# Altium schematic symbol library Analog Devices Amplifiers and Linear Comparators.SchLib: 160 symbols (part 2 of 9)
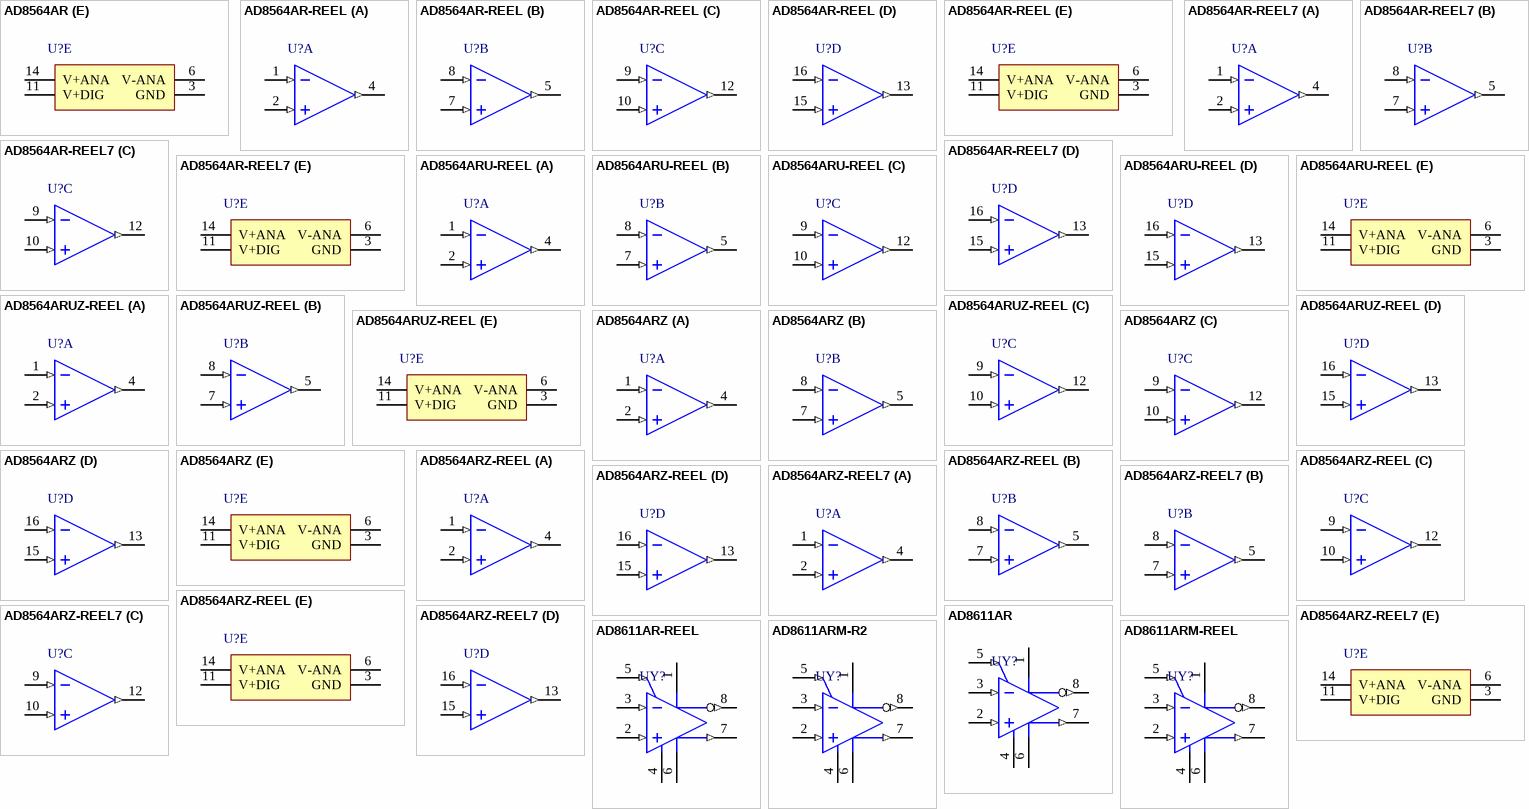
[diagram p8: symbols AD8564AR to AD8611ARM-REEL]

## AD8564AR-REEL7
designator U?
Quad Single Supply Comparator, 5 V, 7 ns Delay, Industrial, 16-pin SOIC (R-16), Reel; Manufacturer: Analog Devices; PartNumber: AD8564AR-REEL7; Input Range (V): -4.9 to 3.5; Total Power (mW): 150mW; Voltage Supply (V): +/- 5; DatasheetVersion: Rev. B; PackageVersion: 060606-A, 06/2006; PackageReference: R-16; PackageDescription: 16-Pin Standard Small Outline Package, Body 9.9 x 3.9 mm, Pitch 1.27 mm; Supplier 1: Digi-Key; Supplier Part Number 1: AD8564AR-REEL7-ND; Supplier 2: Mouser; Supplier Part Number 2: 584-AD8564AR-R7; Packing: Reel; Mounting Technology: Surface Mount; Code_JEDEC: MS-012-AC; ComponentLink1Description: Manufacturer URL; ComponentLink1URL: http://www.analog.com/en/index.html; ComponentLink2Description: Datasheet; ComponentLink2URL: http://www.analog.com/static/imported-files/data_sheets/AD8564.pdf; ComponentLink3Description: Package Specification; ComponentLink3URL: http://www.analog.com/static/imported-files/packages/PKG_PDF/SOIC_Narrow%20(R)/R_16.pdf; ComponentLink4Description: URL Link1; ComponentLink4URL: Product URL:http://www.analog.com/en/special-linear-functions/comparators/ad8564/products/product.html
footprint ADI-R-16_N (SOIC, 16-Leads, Body 9.9x3.9mm, Pitch 1.27mm, IPC Medium Density)
footprint ADI-R-16_L (SOIC, 16-Leads, Body 9.9x3.9mm, Pitch 1.27mm, IPC High Density)
footprint ADI-R-16_M (SOIC, 16-Leads, Body 9.9x3.9mm, Pitch 1.27mm, IPC Low Density)
part A pins: 1 -INA (in), 2 +INA (in), 4 OUT A (out)
part B pins: 5 OUT B (out), 7 +INB (in), 8 -INB (in)
part C pins: 9 -INC (in), 10 +INC (in), 12 OUT C (out)
part D pins: 13 OUT D (out), 15 +IND (in), 16 -IND (in)
part E pins: 3 GND (power), 6 V-ANA (power), 11 V+DIG (power), 14 V+ANA (power)

## AD8564ARU-REEL
designator U?
Quad Single Supply Comparator, 5 V, 7 ns Delay, Industrial, 16-pin SOP (RU-16), Reel; Manufacturer: Analog Devices; PartNumber: AD8564ARU-REEL; Input Range (V): -4.9 to 3.5; Total Power (mW): 150mW; Voltage Supply (V): +/- 5; DatasheetVersion: Rev. B; PackageVersion: Nov-02; PackageReference: RU-16; PackageDescription: 16-Pin Thin Shrink Small Outline Package, Body 5 x 4.4 mm, Pitch 0.65 mm; Supplier 1: Digi-Key; Supplier Part Number 1: AD8564ARU-REELTR-ND; Supplier 2: Digi-Key; Supplier Part Number 2: AD8564ARU-REELCT-ND; Supplier 3: Digi-Key; Supplier Part Number 3: AD8564ARU-REELDKR-ND; Supplier 4: Mouser; Supplier Part Number 4: N/A; Packing: Reel; Mounting Technology: Surface Mount; Code_JEDEC: MO-153AB; ComponentLink1Description: Manufacturer URL; ComponentLink1URL: http://www.analog.com/en/index.html; ComponentLink2Description: Datasheet; ComponentLink2URL: http://www.analog.com/static/imported-files/data_sheets/AD8564.pdf; ComponentLink3Description: Package Specification; ComponentLink3URL: http:/www.analog.com/static/imported-files/packages/36244347913743854010197452789RU16.pdf; ComponentLink4Description: URL Link1; ComponentLink4URL: Product URL:http://www.analog.com/en/special-linear-functions/comparators/ad8564/products/product.html
footprint ADI-RU-16_N (SOP, 16-Leads, Body 5x4.4mm, Pitch 0.65mm, IPC Medium Density)
footprint ADI-RU-16_L (SOP, 16-Leads, Body 5x4.4mm, Pitch 0.65mm, IPC High Density)
footprint ADI-RU-16_M (SOP, 16-Leads, Body 5x4.4mm, Pitch 0.65mm, IPC Low Density)
part A pins: 1 -INA (in), 2 +INA (in), 4 OUT A (out)
part B pins: 5 OUT B (out), 7 +INB (in), 8 -INB (in)
part C pins: 9 -INC (in), 10 +INC (in), 12 OUT C (out)
part D pins: 13 OUT D (out), 15 +IND (in), 16 -IND (in)
part E pins: 3 GND (power), 6 V-ANA (power), 11 V+DIG (power), 14 V+ANA (power)

## AD8564ARUZ-REEL
designator U?
Quad Single Supply Comparator, 5 V, 7 ns Delay, Industrial, 16-pin SOP (RU-16), Reel; Manufacturer: Analog Devices; PartNumber: AD8564ARUZ-REEL; Input Range (V): -4.9 to 3.5; Total Power (mW): 150mW; Voltage Supply (V): +/- 5; DatasheetVersion: Rev. B; PackageVersion: Nov-02; PackageReference: RU-16; PackageDescription: 16-Pin Thin Shrink Small Outline Package, Body 5 x 4.4 mm, Pitch 0.65 mm; Supplier 1: Digi-Key; Supplier Part Number 1: AD8564ARUZ-REELTR-ND; Supplier 2: Digi-Key; Supplier Part Number 2: AD8564ARUZ-REELCT-ND; Supplier 3: Digi-Key; Supplier Part Number 3: AD8564ARUZ-REELDKR-ND; Supplier 4: Farnell; Supplier Part Number 4: 2314117; Supplier 5: Farnell; Supplier Part Number 5: 2370362; Supplier 6: Mouser; Supplier Part Number 6: 584-AD8564ARUZ-R; Packing: Reel; Mounting Technology: Surface Mount; Code_JEDEC: MO-153AB; ComponentLink1Description: Manufacturer URL; ComponentLink1URL: http://www.analog.com/en/index.html; ComponentLink2Description: Datasheet; ComponentLink2URL: http://www.analog.com/static/imported-files/data_sheets/AD8564.pdf; ComponentLink3Description: Package Specification; ComponentLink3URL: http:/www.analog.com/static/imported-files/packages/36244347913743854010197452789RU16.pdf; ComponentLink4Description: URL Link1; ComponentLink4URL: Product URL:http://www.analog.com/en/special-linear-functions/comparators/ad8564/products/product.html
footprint ADI-RU-16_N (SOP, 16-Leads, Body 5x4.4mm, Pitch 0.65mm, IPC Medium Density)
footprint ADI-RU-16_L (SOP, 16-Leads, Body 5x4.4mm, Pitch 0.65mm, IPC High Density)
footprint ADI-RU-16_M (SOP, 16-Leads, Body 5x4.4mm, Pitch 0.65mm, IPC Low Density)
part A pins: 1 -INA (in), 2 +INA (in), 4 OUT A (out)
part B pins: 5 OUT B (out), 7 +INB (in), 8 -INB (in)
part C pins: 9 -INC (in), 10 +INC (in), 12 OUT C (out)
part D pins: 13 OUT D (out), 15 +IND (in), 16 -IND (in)
part E pins: 3 GND (power), 6 V-ANA (power), 11 V+DIG (power), 14 V+ANA (power)

## AD8564ARZ
designator U?
Quad Single Supply Comparator, 5 V, 7 ns Delay, Industrial, 16-pin SOIC (R-16), Tube; Manufacturer: Analog Devices; PartNumber: AD8564ARZ; Input Range (V): -4.9 to 3.5; Total Power (mW): 150mW; Voltage Supply (V): +/- 5; DatasheetVersion: Rev. B; PackageVersion: 060606-A, 06/2006; PackageReference: R-16; PackageDescription: 16-Pin Standard Small Outline Package, Body 9.9 x 3.9 mm, Pitch 1.27 mm; Supplier 1: Digi-Key; Supplier Part Number 1: AD8564ARZ-ND; Supplier 2: Farnell; Supplier Part Number 2: 1661044; Supplier 3: Mouser; Supplier Part Number 3: 584-AD8564ARZ; Packing: Tube; Mounting Technology: Surface Mount; Code_JEDEC: MS-012-AC; ComponentLink1Description: Manufacturer URL; ComponentLink1URL: http://www.analog.com/en/index.html; ComponentLink2Description: Datasheet; ComponentLink2URL: http://www.analog.com/static/imported-files/data_sheets/AD8564.pdf; ComponentLink3Description: Package Specification; ComponentLink3URL: http://www.analog.com/static/imported-files/packages/PKG_PDF/SOIC_Narrow%20(R)/R_16.pdf; ComponentLink4Description: URL Link1; ComponentLink4URL: Product URL:http://www.analog.com/en/special-linear-functions/comparators/ad8564/products/product.html
footprint ADI-R-16_N (SOIC, 16-Leads, Body 9.9x3.9mm, Pitch 1.27mm, IPC Medium Density)
footprint ADI-R-16_L (SOIC, 16-Leads, Body 9.9x3.9mm, Pitch 1.27mm, IPC High Density)
footprint ADI-R-16_M (SOIC, 16-Leads, Body 9.9x3.9mm, Pitch 1.27mm, IPC Low Density)
part A pins: 1 -INA (in), 2 +INA (in), 4 OUT A (out)
part B pins: 5 OUT B (out), 7 +INB (in), 8 -INB (in)
part C pins: 9 -INC (in), 10 +INC (in), 12 OUT C (out)
part D pins: 13 OUT D (out), 15 +IND (in), 16 -IND (in)
part E pins: 3 GND (power), 6 V-ANA (power), 11 V+DIG (power), 14 V+ANA (power)

## AD8564ARZ-REEL
designator U?
Quad Single Supply Comparator, 5 V, 7 ns Delay, Industrial, 16-pin SOIC (R-16), Reel; Manufacturer: Analog Devices; PartNumber: AD8564ARZ-REEL; Input Range (V): -4.9 to 3.5; Total Power (mW): 150mW; Voltage Supply (V): +/- 5; DatasheetVersion: Rev. B; PackageVersion: 060606-A, 06/2006; PackageReference: R-16; PackageDescription: 16-Pin Standard Small Outline Package, Body 9.9 x 3.9 mm, Pitch 1.27 mm; Supplier 1: Digi-Key; Supplier Part Number 1: AD8564ARZ-REEL-ND; Supplier 2: Mouser; Supplier Part Number 2: 584-AD8564ARZ-R; Packing: Reel; Mounting Technology: Surface Mount; Code_JEDEC: MS-012-AC; ComponentLink1Description: Manufacturer URL; ComponentLink1URL: http://www.analog.com/en/index.html; ComponentLink2Description: Datasheet; ComponentLink2URL: http://www.analog.com/static/imported-files/data_sheets/AD8564.pdf; ComponentLink3Description: Package Specification; ComponentLink3URL: http://www.analog.com/static/imported-files/packages/PKG_PDF/SOIC_Narrow%20(R)/R_16.pdf; ComponentLink4Description: URL Link1; ComponentLink4URL: Product URL:http://www.analog.com/en/special-linear-functions/comparators/ad8564/products/product.html
footprint ADI-R-16_N (SOIC, 16-Leads, Body 9.9x3.9mm, Pitch 1.27mm, IPC Medium Density)
footprint ADI-R-16_L (SOIC, 16-Leads, Body 9.9x3.9mm, Pitch 1.27mm, IPC High Density)
footprint ADI-R-16_M (SOIC, 16-Leads, Body 9.9x3.9mm, Pitch 1.27mm, IPC Low Density)
part A pins: 1 -INA (in), 2 +INA (in), 4 OUT A (out)
part B pins: 5 OUT B (out), 7 +INB (in), 8 -INB (in)
part C pins: 9 -INC (in), 10 +INC (in), 12 OUT C (out)
part D pins: 13 OUT D (out), 15 +IND (in), 16 -IND (in)
part E pins: 3 GND (power), 6 V-ANA (power), 11 V+DIG (power), 14 V+ANA (power)

## AD8564ARZ-REEL7
designator U?
Quad Single Supply Comparator, 5 V, 7 ns Delay, Industrial, 16-pin SOIC (R-16), Reel; Manufacturer: Analog Devices; PartNumber: AD8564ARZ-REEL7; Input Range (V): -4.9 to 3.5; Total Power (mW): 150mW; Voltage Supply (V): +/- 5; DatasheetVersion: Rev. B; PackageVersion: 060606-A, 06/2006; PackageReference: R-16; PackageDescription: 16-Pin Standard Small Outline Package, Body 9.9 x 3.9 mm, Pitch 1.27 mm; Supplier 1: Digi-Key; Supplier Part Number 1: AD8564ARZ-REEL7-ND; Supplier 2: Mouser; Supplier Part Number 2: 584-AD8564ARZ-R7; Packing: Reel; Mounting Technology: Surface Mount; Code_JEDEC: MS-012-AC; ComponentLink1Description: Manufacturer URL; ComponentLink1URL: http://www.analog.com/en/index.html; ComponentLink2Description: Datasheet; ComponentLink2URL: http://www.analog.com/static/imported-files/data_sheets/AD8564.pdf; ComponentLink3Description: Package Specification; ComponentLink3URL: http://www.analog.com/static/imported-files/packages/PKG_PDF/SOIC_Narrow%20(R)/R_16.pdf; ComponentLink4Description: URL Link1; ComponentLink4URL: Product URL:http://www.analog.com/en/special-linear-functions/comparators/ad8564/products/product.html
footprint ADI-R-16_N (SOIC, 16-Leads, Body 9.9x3.9mm, Pitch 1.27mm, IPC Medium Density)
footprint ADI-R-16_L (SOIC, 16-Leads, Body 9.9x3.9mm, Pitch 1.27mm, IPC High Density)
footprint ADI-R-16_M (SOIC, 16-Leads, Body 9.9x3.9mm, Pitch 1.27mm, IPC Low Density)
part A pins: 1 -INA (in), 2 +INA (in), 4 OUT A (out)
part B pins: 5 OUT B (out), 7 +INB (in), 8 -INB (in)
part C pins: 9 -INC (in), 10 +INC (in), 12 OUT C (out)
part D pins: 13 OUT D (out), 15 +IND (in), 16 -IND (in)
part E pins: 3 GND (power), 6 V-ANA (power), 11 V+DIG (power), 14 V+ANA (power)

## AD8611AR
designator UY?
Ultrafast, Single-Supply Comparator, 3 to 5 V, 5.5 ns Delay, Industrial, 8-pin SOIC (R-8), Tube; Manufacturer: Analog Devices; PartNumber: AD8611AR; Input Range (V): 0 to 3; Total Power (mW): 50mW; Voltage Supply (V): 3 to 5; DatasheetVersion: Rev. A; PackageVersion: 060506-A, 06/2006; PackageReference: R-8; PackageDescription: 8-Pin Standard Small Outline Package, Body 4.9 x 3.9 mm, Pitch 1.27 mm; Supplier 1: Digi-Key; Supplier Part Number 1: AD8611AR-ND; Supplier 2: Mouser; Supplier Part Number 2: 584-AD8611AR; Packing: Tube; Mounting Technology: Surface Mount; Code_JEDEC: MS-012-AA; ComponentLink1Description: Manufacturer URL; ComponentLink1URL: http://www.analog.com/en/index.html; ComponentLink2Description: Datasheet; ComponentLink2URL: http://www.analog.com/static/imported-files/data_sheets/AD8611_8612.pdf; ComponentLink3Description: Package Specification; ComponentLink3URL: http://www.analog.com/static/imported-files/packages/PKG_PDF/SOIC_Narrow%20(R)/R_8.pdf; ComponentLink4Description: URL Link1; ComponentLink4URL: Product URL:http://www.analog.com/en/special-linear-functions/comparators/ad8611/products/product.html
footprint ADI-R-8_N (SOIC, 8-Leads, Body 4.9x3.9mm, Pitch 1.27mm, IPC Medium Density)
footprint ADI-R-8_L (SOIC, 8-Leads, Body 4.9x3.9mm, Pitch 1.27mm, IPC High Density)
footprint ADI-R-8_M (SOIC, 8-Leads, Body 4.9x3.9mm, Pitch 1.27mm, IPC Low Density)
pins: 1 V+ (power) "Positive Supply Terminal.", 2 +IN (in) "Noninverting Analog Input of the Differential Input Stage.", 3 -IN (in) "Inverting Analog Input of the Differential Input Stage.", 4 V- (power) "Negative Supply Terminal.", 5 LATCH (in) "Latch Enable Input.", 6 GND (power) "Negative Logic Supply", 7 QA (out) "One of Two Complementary Output for Channel A.", 8 ~{QA} (out) "One of Two Complementary Output for Channel A."

## AD8611AR-REEL
designator UY?
Ultrafast, Single-Supply Comparator, 3 to 5 V, 5.5 ns Delay, Industrial, 8-pin SOIC (R-8), Reel; Manufacturer: Analog Devices; PartNumber: AD8611AR-REEL; Input Range (V): 0 to 3; Total Power (mW): 50mW; Voltage Supply (V): 3 to 5; DatasheetVersion: Rev. A; PackageVersion: 060506-A, 06/2006; PackageReference: R-8; PackageDescription: 8-Pin Standard Small Outline Package, Body 4.9 x 3.9 mm, Pitch 1.27 mm; Supplier 1: Digi-Key; Supplier Part Number 1: AD8611AR-REEL-ND; Supplier 2: Mouser; Supplier Part Number 2: 584-AD8611AR-R; Packing: Reel; Mounting Technology: Surface Mount; Code_JEDEC: MS-012-AA; ComponentLink1Description: Manufacturer URL; ComponentLink1URL: http://www.analog.com/en/index.html; ComponentLink2Description: Datasheet; ComponentLink2URL: http://www.analog.com/static/imported-files/data_sheets/AD8611_8612.pdf; ComponentLink3Description: Package Specification; ComponentLink3URL: http://www.analog.com/static/imported-files/packages/PKG_PDF/SOIC_Narrow%20(R)/R_8.pdf; ComponentLink4Description: URL Link1; ComponentLink4URL: Product URL:http://www.analog.com/en/special-linear-functions/comparators/ad8611/products/product.html
footprint ADI-R-8_N (SOIC, 8-Leads, Body 4.9x3.9mm, Pitch 1.27mm, IPC Medium Density)
footprint ADI-R-8_L (SOIC, 8-Leads, Body 4.9x3.9mm, Pitch 1.27mm, IPC High Density)
footprint ADI-R-8_M (SOIC, 8-Leads, Body 4.9x3.9mm, Pitch 1.27mm, IPC Low Density)
pins: 1 V+ (power) "Positive Supply Terminal.", 2 +IN (in) "Noninverting Analog Input of the Differential Input Stage.", 3 -IN (in) "Inverting Analog Input of the Differential Input Stage.", 4 V- (power) "Negative Supply Terminal.", 5 LATCH (in) "Latch Enable Input.", 6 GND (power) "Negative Logic Supply", 7 QA (out) "One of Two Complementary Output for Channel A.", 8 ~{QA} (out) "One of Two Complementary Output for Channel A."

## AD8611ARM-R2
designator UY?
Ultrafast, Single-Supply Comparator, 3 to 5 V, 5.5 ns Delay, Industrial, 8-pin SOP (RM-8), Reel; Manufacturer: Analog Devices; PartNumber: AD8611ARM-R2; Input Range (V): 0 to 3; Total Power (mW): 50mW; Voltage Supply (V): 3 to 5; DatasheetVersion: Rev. A; PackageVersion: Aug-05; PackageReference: RM-8; PackageDescription: 8-Pin Mini Small Outline Package, Body 3 x 3 mm, Pitch 0.65 mm; Supplier 1: Digi-Key; Supplier Part Number 1: AD8611ARM-R2-ND; Supplier 2: Mouser; Supplier Part Number 2: N/A; Packing: Reel; Mounting Technology: Surface Mount; Code_JEDEC: MO-187-AA; ComponentLink1Description: Manufacturer URL; ComponentLink1URL: http://www.analog.com/en/index.html; ComponentLink2Description: Datasheet; ComponentLink2URL: http://www.analog.com/static/imported-files/data_sheets/AD8611_8612.pdf; ComponentLink3Description: Package Specification; ComponentLink3URL: http://www.analog.com/static/imported-files/packages/PKG_PDF/MSOP%28RM%29/RM_8.pdf; ComponentLink4Description: URL Link1; ComponentLink4URL: Product URL:http://www.analog.com/en/special-linear-functions/comparators/ad8611/products/product.html
footprint ADI-RM-8_N (SOP, 8-Leads, Body 3x3mm, Pitch 0.65mm, IPC Medium Density)
footprint ADI-RM-8_L (SOP, 8-Leads, Body 3x3mm, Pitch 0.65mm, IPC High Density)
footprint ADI-RM-8_M (SOP, 8-Leads, Body 3x3mm, Pitch 0.65mm, IPC Low Density)
pins: 1 V+ (power) "Positive Supply Terminal.", 2 +IN (in) "Noninverting Analog Input of the Differential Input Stage.", 3 -IN (in) "Inverting Analog Input of the Differential Input Stage.", 4 V- (power) "Negative Supply Terminal.", 5 LATCH (in) "Latch Enable Input.", 6 GND (power) "Negative Logic Supply", 7 QA (out) "One of Two Complementary Output for Channel A.", 8 ~{QA} (out) "One of Two Complementary Output for Channel A."

## AD8611ARM-REEL
designator UY?
Ultrafast, Single-Supply Comparator, 3 to 5 V, 5.5 ns Delay, Industrial, 8-pin SOP (RM-8), Reel; Manufacturer: Analog Devices; PartNumber: AD8611ARM-REEL; Input Range (V): 0 to 3; Total Power (mW): 50mW; Voltage Supply (V): 3 to 5; DatasheetVersion: Rev. A; PackageVersion: Aug-05; PackageReference: RM-8; PackageDescription: 8-Pin Mini Small Outline Package, Body 3 x 3 mm, Pitch 0.65 mm; Supplier 1: Digi-Key; Supplier Part Number 1: AD8611ARM-REEL-ND; Supplier 2: Mouser; Supplier Part Number 2: N/A; Packing: Reel; Mounting Technology: Surface Mount; Code_JEDEC: MO-187-AA; ComponentLink1Description: Manufacturer URL; ComponentLink1URL: http://www.analog.com/en/index.html; ComponentLink2Description: Datasheet; ComponentLink2URL: http://www.analog.com/static/imported-files/data_sheets/AD8611_8612.pdf; ComponentLink3Description: Package Specification; ComponentLink3URL: http://www.analog.com/static/imported-files/packages/PKG_PDF/MSOP%28RM%29/RM_8.pdf; ComponentLink4Description: URL Link1; ComponentLink4URL: Product URL:http://www.analog.com/en/special-linear-functions/comparators/ad8611/products/product.html
footprint ADI-RM-8_N (SOP, 8-Leads, Body 3x3mm, Pitch 0.65mm, IPC Medium Density)
footprint ADI-RM-8_L (SOP, 8-Leads, Body 3x3mm, Pitch 0.65mm, IPC High Density)
footprint ADI-RM-8_M (SOP, 8-Leads, Body 3x3mm, Pitch 0.65mm, IPC Low Density)
pins: 1 V+ (power) "Positive Supply Terminal.", 2 +IN (in) "Noninverting Analog Input of the Differential Input Stage.", 3 -IN (in) "Inverting Analog Input of the Differential Input Stage.", 4 V- (power) "Negative Supply Terminal.", 5 LATCH (in) "Latch Enable Input.", 6 GND (power) "Negative Logic Supply", 7 QA (out) "One of Two Complementary Output for Channel A.", 8 ~{QA} (out) "One of Two Complementary Output for Channel A."

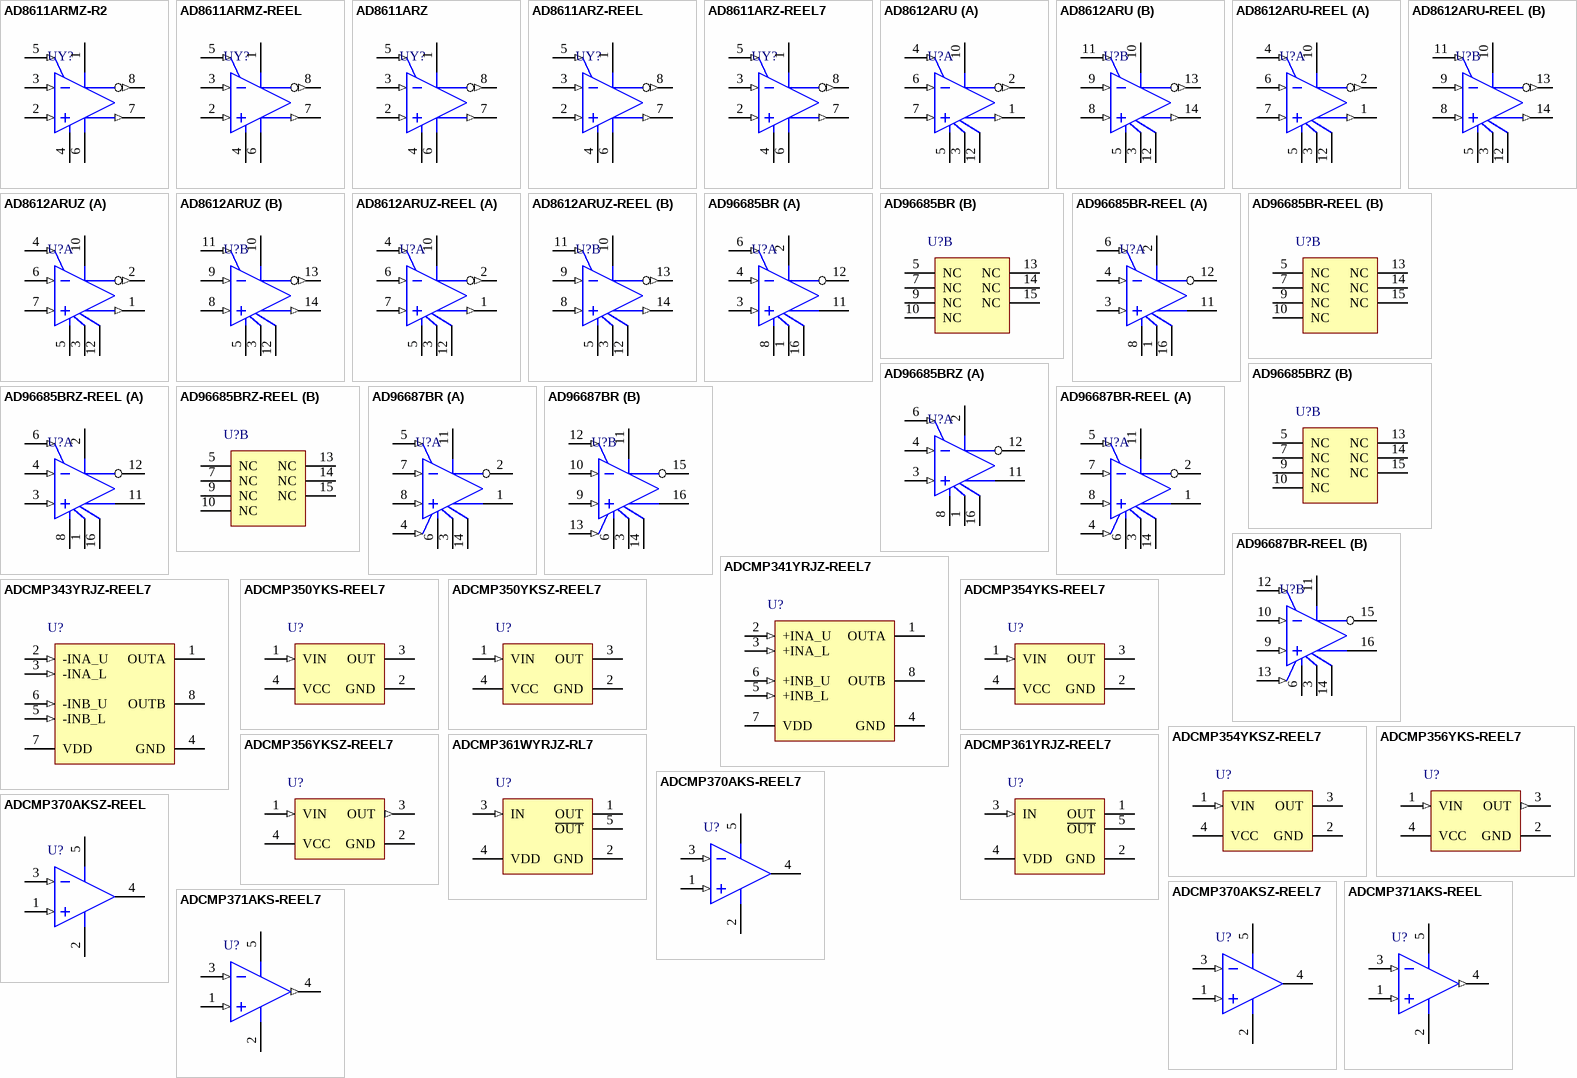
[diagram p2: symbols AD8611ARMZ-R2 to ADCMP371AKS-REEL7]

## AD8611ARMZ-R2
designator UY?
Ultrafast, Single-Supply Comparator, 3 to 5 V, 5.5 ns Delay, Industrial, 8-pin SOP (RM-8), Reel; Manufacturer: Analog Devices; PartNumber: AD8611ARMZ-R2; Input Range (V): 0 to 3; Total Power (mW): 50mW; Voltage Supply (V): 3 to 5; DatasheetVersion: Rev. A; PackageVersion: Aug-05; PackageReference: RM-8; PackageDescription: 8-Pin Mini Small Outline Package, Body 3 x 3 mm, Pitch 0.65 mm; Supplier 1: Digi-Key; Supplier Part Number 1: AD8611ARMZ-R2TR-ND; Supplier 2: Digi-Key; Supplier Part Number 2: AD8611ARMZ-R2CT-ND; Supplier 3: Digi-Key; Supplier Part Number 3: AD8611ARMZ-R2DKR-ND; Supplier 4: Farnell; Supplier Part Number 4: 1651268; Supplier 5: Mouser; Supplier Part Number 5: 584-AD8611ARMZ-R2; Packing: Reel; Mounting Technology: Surface Mount; Code_JEDEC: MO-187-AA; ComponentLink1Description: Manufacturer URL; ComponentLink1URL: http://www.analog.com/en/index.html; ComponentLink2Description: Datasheet; ComponentLink2URL: http://www.analog.com/static/imported-files/data_sheets/AD8611_8612.pdf; ComponentLink3Description: Package Specification; ComponentLink3URL: http://www.analog.com/static/imported-files/packages/PKG_PDF/MSOP%28RM%29/RM_8.pdf; ComponentLink4Description: URL Link1; ComponentLink4URL: Product URL:http://www.analog.com/en/special-linear-functions/comparators/ad8611/products/product.html
footprint ADI-RM-8_N (SOP, 8-Leads, Body 3x3mm, Pitch 0.65mm, IPC Medium Density)
footprint ADI-RM-8_L (SOP, 8-Leads, Body 3x3mm, Pitch 0.65mm, IPC High Density)
footprint ADI-RM-8_M (SOP, 8-Leads, Body 3x3mm, Pitch 0.65mm, IPC Low Density)
pins: 1 V+ (power) "Positive Supply Terminal.", 2 +IN (in) "Noninverting Analog Input of the Differential Input Stage.", 3 -IN (in) "Inverting Analog Input of the Differential Input Stage.", 4 V- (power) "Negative Supply Terminal.", 5 LATCH (in) "Latch Enable Input.", 6 GND (power) "Negative Logic Supply", 7 QA (out) "One of Two Complementary Output for Channel A.", 8 ~{QA} (out) "One of Two Complementary Output for Channel A."

## AD8611ARMZ-REEL
designator UY?
Ultrafast, Single-Supply Comparator, 3 to 5 V, 5.5 ns Delay, Industrial, 8-pin SOP (RM-8), Reel; Manufacturer: Analog Devices; PartNumber: AD8611ARMZ-REEL; Input Range (V): 0 to 3; Total Power (mW): 50mW; Voltage Supply (V): 3 to 5; DatasheetVersion: Rev. A; PackageVersion: Aug-05; PackageReference: RM-8; PackageDescription: 8-Pin Mini Small Outline Package, Body 3 x 3 mm, Pitch 0.65 mm; Supplier 1: Digi-Key; Supplier Part Number 1: AD8611ARMZ-REEL-ND; Supplier 2: Mouser; Supplier Part Number 2: 584-AD8611ARMZ-R; Packing: Reel; Mounting Technology: Surface Mount; Code_JEDEC: MO-187-AA; ComponentLink1Description: Manufacturer URL; ComponentLink1URL: http://www.analog.com/en/index.html; ComponentLink2Description: Datasheet; ComponentLink2URL: http://www.analog.com/static/imported-files/data_sheets/AD8611_8612.pdf; ComponentLink3Description: Package Specification; ComponentLink3URL: http://www.analog.com/static/imported-files/packages/PKG_PDF/MSOP%28RM%29/RM_8.pdf; ComponentLink4Description: URL Link1; ComponentLink4URL: Product URL:http://www.analog.com/en/special-linear-functions/comparators/ad8611/products/product.html
footprint ADI-RM-8_N (SOP, 8-Leads, Body 3x3mm, Pitch 0.65mm, IPC Medium Density)
footprint ADI-RM-8_L (SOP, 8-Leads, Body 3x3mm, Pitch 0.65mm, IPC High Density)
footprint ADI-RM-8_M (SOP, 8-Leads, Body 3x3mm, Pitch 0.65mm, IPC Low Density)
pins: 1 V+ (power) "Positive Supply Terminal.", 2 +IN (in) "Noninverting Analog Input of the Differential Input Stage.", 3 -IN (in) "Inverting Analog Input of the Differential Input Stage.", 4 V- (power) "Negative Supply Terminal.", 5 LATCH (in) "Latch Enable Input.", 6 GND (power) "Negative Logic Supply", 7 QA (out) "One of Two Complementary Output for Channel A.", 8 ~{QA} (out) "One of Two Complementary Output for Channel A."

## AD8611ARZ
designator UY?
Ultrafast, Single-Supply Comparator, 3 to 5 V, 5.5 ns Delay, Industrial, 8-pin SOIC (R-8), Tube; Manufacturer: Analog Devices; PartNumber: AD8611ARZ; Input Range (V): 0 to 3; Total Power (mW): 50mW; Voltage Supply (V): 3 to 5; DatasheetVersion: Rev. A; PackageVersion: 060506-A, 06/2006; PackageReference: R-8; PackageDescription: 8-Pin Standard Small Outline Package, Body 4.9 x 3.9 mm, Pitch 1.27 mm; Supplier 1: Digi-Key; Supplier Part Number 1: AD8611ARZ-ND; Supplier 2: Farnell; Supplier Part Number 2: 9604324; Supplier 3: Mouser; Supplier Part Number 3: 584-AD8611ARZ; Packing: Tube; Mounting Technology: Surface Mount; Code_JEDEC: MS-012-AA; ComponentLink1Description: Manufacturer URL; ComponentLink1URL: http://www.analog.com/en/index.html; ComponentLink2Description: Datasheet; ComponentLink2URL: http://www.analog.com/static/imported-files/data_sheets/AD8611_8612.pdf; ComponentLink3Description: Package Specification; ComponentLink3URL: http://www.analog.com/static/imported-files/packages/PKG_PDF/SOIC_Narrow%20(R)/R_8.pdf; ComponentLink4Description: URL Link1; ComponentLink4URL: Product URL:http://www.analog.com/en/special-linear-functions/comparators/ad8611/products/product.html
footprint ADI-R-8_N (SOIC, 8-Leads, Body 4.9x3.9mm, Pitch 1.27mm, IPC Medium Density)
footprint ADI-R-8_L (SOIC, 8-Leads, Body 4.9x3.9mm, Pitch 1.27mm, IPC High Density)
footprint ADI-R-8_M (SOIC, 8-Leads, Body 4.9x3.9mm, Pitch 1.27mm, IPC Low Density)
pins: 1 V+ (power) "Positive Supply Terminal.", 2 +IN (in) "Noninverting Analog Input of the Differential Input Stage.", 3 -IN (in) "Inverting Analog Input of the Differential Input Stage.", 4 V- (power) "Negative Supply Terminal.", 5 LATCH (in) "Latch Enable Input.", 6 GND (power) "Negative Logic Supply", 7 QA (out) "One of Two Complementary Output for Channel A.", 8 ~{QA} (out) "One of Two Complementary Output for Channel A."

## AD8611ARZ-REEL
designator UY?
Ultrafast, Single-Supply Comparator, 3 to 5 V, 5.5 ns Delay, Industrial, 8-pin SOIC (R-8), Reel; Manufacturer: Analog Devices; PartNumber: AD8611ARZ-REEL; Input Range (V): 0 to 3; Total Power (mW): 50mW; Voltage Supply (V): 3 to 5; DatasheetVersion: Rev. A; PackageVersion: 060506-A, 06/2006; PackageReference: R-8; PackageDescription: 8-Pin Standard Small Outline Package, Body 4.9 x 3.9 mm, Pitch 1.27 mm; Supplier 1: Digi-Key; Supplier Part Number 1: AD8611ARZ-REEL-ND; Supplier 2: Mouser; Supplier Part Number 2: 584-AD8611ARZ-R; Packing: Reel; Mounting Technology: Surface Mount; Code_JEDEC: MS-012-AA; ComponentLink1Description: Manufacturer URL; ComponentLink1URL: http://www.analog.com/en/index.html; ComponentLink2Description: Datasheet; ComponentLink2URL: http://www.analog.com/static/imported-files/data_sheets/AD8611_8612.pdf; ComponentLink3Description: Package Specification; ComponentLink3URL: http://www.analog.com/static/imported-files/packages/PKG_PDF/SOIC_Narrow%20(R)/R_8.pdf; ComponentLink4Description: URL Link1; ComponentLink4URL: Product URL:http://www.analog.com/en/special-linear-functions/comparators/ad8611/products/product.html
footprint ADI-R-8_N (SOIC, 8-Leads, Body 4.9x3.9mm, Pitch 1.27mm, IPC Medium Density)
footprint ADI-R-8_L (SOIC, 8-Leads, Body 4.9x3.9mm, Pitch 1.27mm, IPC High Density)
footprint ADI-R-8_M (SOIC, 8-Leads, Body 4.9x3.9mm, Pitch 1.27mm, IPC Low Density)
pins: 1 V+ (power) "Positive Supply Terminal.", 2 +IN (in) "Noninverting Analog Input of the Differential Input Stage.", 3 -IN (in) "Inverting Analog Input of the Differential Input Stage.", 4 V- (power) "Negative Supply Terminal.", 5 LATCH (in) "Latch Enable Input.", 6 GND (power) "Negative Logic Supply", 7 QA (out) "One of Two Complementary Output for Channel A.", 8 ~{QA} (out) "One of Two Complementary Output for Channel A."

## AD8611ARZ-REEL7
designator UY?
Ultrafast, Single-Supply Comparator, 3 to 5 V, 5.5 ns Delay, Industrial, 8-pin SOIC (R-8), Reel; Manufacturer: Analog Devices; PartNumber: AD8611ARZ-REEL7; Input Range (V): 0 to 3; Total Power (mW): 50mW; Voltage Supply (V): 3 to 5; DatasheetVersion: Rev. A; PackageVersion: 060506-A, 06/2006; PackageReference: R-8; PackageDescription: 8-Pin Standard Small Outline Package, Body 4.9 x 3.9 mm, Pitch 1.27 mm; Supplier 1: Digi-Key; Supplier Part Number 1: AD8611ARZ-REEL7TR-ND; Supplier 2: Digi-Key; Supplier Part Number 2: AD8611ARZ-REEL7CT-ND; Supplier 3: Digi-Key; Supplier Part Number 3: AD8611ARZ-REEL7DKR-ND; Supplier 4: Mouser; Supplier Part Number 4: 584-AD8611ARZ-R7; Packing: Reel; Mounting Technology: Surface Mount; Code_JEDEC: MS-012-AA; ComponentLink1Description: Manufacturer URL; ComponentLink1URL: http://www.analog.com/en/index.html; ComponentLink2Description: Datasheet; ComponentLink2URL: http://www.analog.com/static/imported-files/data_sheets/AD8611_8612.pdf; ComponentLink3Description: Package Specification; ComponentLink3URL: http://www.analog.com/static/imported-files/packages/PKG_PDF/SOIC_Narrow%20(R)/R_8.pdf; ComponentLink4Description: URL Link1; ComponentLink4URL: Product URL:http://www.analog.com/en/special-linear-functions/comparators/ad8611/products/product.html
footprint ADI-R-8_N (SOIC, 8-Leads, Body 4.9x3.9mm, Pitch 1.27mm, IPC Medium Density)
footprint ADI-R-8_L (SOIC, 8-Leads, Body 4.9x3.9mm, Pitch 1.27mm, IPC High Density)
footprint ADI-R-8_M (SOIC, 8-Leads, Body 4.9x3.9mm, Pitch 1.27mm, IPC Low Density)
pins: 1 V+ (power) "Positive Supply Terminal.", 2 +IN (in) "Noninverting Analog Input of the Differential Input Stage.", 3 -IN (in) "Inverting Analog Input of the Differential Input Stage.", 4 V- (power) "Negative Supply Terminal.", 5 LATCH (in) "Latch Enable Input.", 6 GND (power) "Negative Logic Supply", 7 QA (out) "One of Two Complementary Output for Channel A.", 8 ~{QA} (out) "One of Two Complementary Output for Channel A."

## AD8612ARU
designator U?
Ultrafast, Single-Supply Comparator, 3 to 5 V, 5.5 ns Delay, Industrial, 14-pin SOP (RU-14), Tube; Manufacturer: Analog Devices; PartNumber: AD8612ARU; Input Range (V): 0 to 3; Total Power (mW): 100mW; Voltage Supply (V): 3 to 5; DatasheetVersion: Rev. A; PackageVersion: Aug-02; PackageReference: RU-14; PackageDescription: 14-Pin Thin Shrink Small Outline Package, Body 5 x 4.4 mm, Pitch 0.65 mm; Supplier 1: Digi-Key; Supplier Part Number 1: AD8612ARU-ND; Supplier 2: Mouser; Supplier Part Number 2: 584-AD8612ARU; Packing: Tube; Mounting Technology: Surface Mount; Code_JEDEC: MO-153AB-1; ComponentLink1Description: Manufacturer URL; ComponentLink1URL: http://www.analog.com/en/index.html; ComponentLink2Description: Datasheet; ComponentLink2URL: http://www.analog.com/static/imported-files/data_sheets/AD8611_8612.pdf; ComponentLink3Description: Package Specification; ComponentLink3URL: http://www.analog.com/static/imported-files/packages/36057385283879153717235186773RU14.pdf; ComponentLink4Description: URL Link1; ComponentLink4URL: Product URL:http://www.analog.com/en/special-linear-functions/comparators/ad8612/products/product.html
footprint ADI-RU-14_N (SOP, 14-Leads, Body 5x4.4mm, Pitch 0.65mm, IPC Medium Density)
footprint ADI-RU-14_L (SOP, 14-Leads, Body 5x4.4mm, Pitch 0.65mm, IPC High Density)
footprint ADI-RU-14_M (SOP, 14-Leads, Body 5x4.4mm, Pitch 0.65mm, IPC Low Density)
pins on every part: 3 GND (power) "Negative Logic Supply", 5 V- (power) "Negative Supply Terminal.", 10 V+ (power) "Positive Supply Terminal.", 12 GND (power) "Negative Logic Supply"
part A pins: 1 QA (out) "One of Two Complementary Output for Channel A.", 2 ~{QA} (out) "One of Two Complementary Output for Channel A.", 4 LEA (in) "Channel A Latch Enable.", 6 INA- (in) "Inverting Analog Input of the Differential Input Stage for Channel A.", 7 INA+ (in) "Noninverting Analog Input of the Differential Input Stage for Channel A."
part B pins: 8 INB+ (in) "Noninverting Analog Input of the Differential Input Stage for Channel B.", 9 INB- (in) "Inverting Analog Input of the Differential Input Stage for Channel B.", 11 LEB (in) "Channel B Latch Enable.", 13 ~{QB} (out) "One of Two Complementary Output for Channel B.", 14 QB (out) "One of Two Complementary Output for Channel B."

## AD8612ARU-REEL
designator U?
Ultrafast, Single-Supply Comparator, 3 to 5 V, 5.5 ns Delay, Industrial, 14-pin SOP (RU-14), Reel; Manufacturer: Analog Devices; PartNumber: AD8612ARU-REEL; Input Range (V): 0 to 3; Total Power (mW): 100mW; Voltage Supply (V): 3 to 5; DatasheetVersion: Rev. A; PackageVersion: Aug-02; PackageReference: RU-14; PackageDescription: 14-Pin Thin Shrink Small Outline Package, Body 5 x 4.4 mm, Pitch 0.65 mm; Supplier 1: Digi-Key; Supplier Part Number 1: AD8612ARU-REEL-ND; Supplier 2: Mouser; Supplier Part Number 2: 584-AD8612ARU-R; Packing: Reel; Mounting Technology: Surface Mount; Code_JEDEC: MO-153AB-1; ComponentLink1Description: Manufacturer URL; ComponentLink1URL: http://www.analog.com/en/index.html; ComponentLink2Description: Datasheet; ComponentLink2URL: http://www.analog.com/static/imported-files/data_sheets/AD8611_8612.pdf; ComponentLink3Description: Package Specification; ComponentLink3URL: http://www.analog.com/static/imported-files/packages/36057385283879153717235186773RU14.pdf; ComponentLink4Description: URL Link1; ComponentLink4URL: Product URL:http://www.analog.com/en/special-linear-functions/comparators/ad8612/products/product.html
footprint ADI-RU-14_N (SOP, 14-Leads, Body 5x4.4mm, Pitch 0.65mm, IPC Medium Density)
footprint ADI-RU-14_L (SOP, 14-Leads, Body 5x4.4mm, Pitch 0.65mm, IPC High Density)
footprint ADI-RU-14_M (SOP, 14-Leads, Body 5x4.4mm, Pitch 0.65mm, IPC Low Density)
pins on every part: 3 GND (power) "Negative Logic Supply", 5 V- (power) "Negative Supply Terminal.", 10 V+ (power) "Positive Supply Terminal.", 12 GND (power) "Negative Logic Supply"
part A pins: 1 QA (out) "One of Two Complementary Output for Channel A.", 2 ~{QA} (out) "One of Two Complementary Output for Channel A.", 4 LEA (in) "Channel A Latch Enable.", 6 INA- (in) "Inverting Analog Input of the Differential Input Stage for Channel A.", 7 INA+ (in) "Noninverting Analog Input of the Differential Input Stage for Channel A."
part B pins: 8 INB+ (in) "Noninverting Analog Input of the Differential Input Stage for Channel B.", 9 INB- (in) "Inverting Analog Input of the Differential Input Stage for Channel B.", 11 LEB (in) "Channel B Latch Enable.", 13 ~{QB} (out) "One of Two Complementary Output for Channel B.", 14 QB (out) "One of Two Complementary Output for Channel B."

## AD8612ARUZ
designator U?
Ultrafast, Single-Supply Comparator, 3 to 5 V, 5.5 ns Delay, Industrial, 14-pin SOP (RU-14), Tube; Manufacturer: Analog Devices; PartNumber: AD8612ARUZ; Input Range (V): 0 to 3; Total Power (mW): 100mW; Voltage Supply (V): 3 to 5; DatasheetVersion: Rev. A; PackageVersion: Aug-02; PackageReference: RU-14; PackageDescription: 14-Pin Thin Shrink Small Outline Package, Body 5 x 4.4 mm, Pitch 0.65 mm; Supplier 1: Digi-Key; Supplier Part Number 1: AD8612ARUZ-ND; Supplier 2: Farnell; Supplier Part Number 2: 1438900; Supplier 3: Mouser; Supplier Part Number 3: 584-AD8612ARUZ; Packing: Tube; Mounting Technology: Surface Mount; Code_JEDEC: MO-153AB-1; ComponentLink1Description: Manufacturer URL; ComponentLink1URL: http://www.analog.com/en/index.html; ComponentLink2Description: Datasheet; ComponentLink2URL: http://www.analog.com/static/imported-files/data_sheets/AD8611_8612.pdf; ComponentLink3Description: Package Specification; ComponentLink3URL: http://www.analog.com/static/imported-files/packages/36057385283879153717235186773RU14.pdf; ComponentLink4Description: URL Link1; ComponentLink4URL: Product URL:http://www.analog.com/en/special-linear-functions/comparators/ad8612/products/product.html
footprint ADI-RU-14_N (SOP, 14-Leads, Body 5x4.4mm, Pitch 0.65mm, IPC Medium Density)
footprint ADI-RU-14_L (SOP, 14-Leads, Body 5x4.4mm, Pitch 0.65mm, IPC High Density)
footprint ADI-RU-14_M (SOP, 14-Leads, Body 5x4.4mm, Pitch 0.65mm, IPC Low Density)
pins on every part: 3 GND (power) "Negative Logic Supply", 5 V- (power) "Negative Supply Terminal.", 10 V+ (power) "Positive Supply Terminal.", 12 GND (power) "Negative Logic Supply"
part A pins: 1 QA (out) "One of Two Complementary Output for Channel A.", 2 ~{QA} (out) "One of Two Complementary Output for Channel A.", 4 LEA (in) "Channel A Latch Enable.", 6 INA- (in) "Inverting Analog Input of the Differential Input Stage for Channel A.", 7 INA+ (in) "Noninverting Analog Input of the Differential Input Stage for Channel A."
part B pins: 8 INB+ (in) "Noninverting Analog Input of the Differential Input Stage for Channel B.", 9 INB- (in) "Inverting Analog Input of the Differential Input Stage for Channel B.", 11 LEB (in) "Channel B Latch Enable.", 13 ~{QB} (out) "One of Two Complementary Output for Channel B.", 14 QB (out) "One of Two Complementary Output for Channel B."

## AD8612ARUZ-REEL
designator U?
Ultrafast, Single-Supply Comparator, 3 to 5 V, 5.5 ns Delay, Industrial, 14-pin SOP (RU-14), Reel; Manufacturer: Analog Devices; PartNumber: AD8612ARUZ-REEL; Input Range (V): 0 to 3; Total Power (mW): 100mW; Voltage Supply (V): 3 to 5; DatasheetVersion: Rev. A; PackageVersion: Aug-02; PackageReference: RU-14; PackageDescription: 14-Pin Thin Shrink Small Outline Package, Body 5 x 4.4 mm, Pitch 0.65 mm; Supplier 1: Digi-Key; Supplier Part Number 1: AD8612ARUZ-REEL-ND; Supplier 2: Mouser; Supplier Part Number 2: 584-AD8612ARUZ-R; Packing: Reel; Mounting Technology: Surface Mount; Code_JEDEC: MO-153AB-1; ComponentLink1Description: Manufacturer URL; ComponentLink1URL: http://www.analog.com/en/index.html; ComponentLink2Description: Datasheet; ComponentLink2URL: http://www.analog.com/static/imported-files/data_sheets/AD8611_8612.pdf; ComponentLink3Description: Package Specification; ComponentLink3URL: http://www.analog.com/static/imported-files/packages/36057385283879153717235186773RU14.pdf; ComponentLink4Description: URL Link1; ComponentLink4URL: Product URL:http://www.analog.com/en/special-linear-functions/comparators/ad8612/products/product.html
footprint ADI-RU-14_N (SOP, 14-Leads, Body 5x4.4mm, Pitch 0.65mm, IPC Medium Density)
footprint ADI-RU-14_L (SOP, 14-Leads, Body 5x4.4mm, Pitch 0.65mm, IPC High Density)
footprint ADI-RU-14_M (SOP, 14-Leads, Body 5x4.4mm, Pitch 0.65mm, IPC Low Density)
pins on every part: 3 GND (power) "Negative Logic Supply", 5 V- (power) "Negative Supply Terminal.", 10 V+ (power) "Positive Supply Terminal.", 12 GND (power) "Negative Logic Supply"
part A pins: 1 QA (out) "One of Two Complementary Output for Channel A.", 2 ~{QA} (out) "One of Two Complementary Output for Channel A.", 4 LEA (in) "Channel A Latch Enable.", 6 INA- (in) "Inverting Analog Input of the Differential Input Stage for Channel A.", 7 INA+ (in) "Noninverting Analog Input of the Differential Input Stage for Channel A."
part B pins: 8 INB+ (in) "Noninverting Analog Input of the Differential Input Stage for Channel B.", 9 INB- (in) "Inverting Analog Input of the Differential Input Stage for Channel B.", 11 LEB (in) "Channel B Latch Enable.", 13 ~{QB} (out) "One of Two Complementary Output for Channel B.", 14 QB (out) "One of Two Complementary Output for Channel B."

## AD96685BR
designator U?
Ultrafast Comparator, 5, - 5.2 V, 2.5 ns Delay, Commercial, 16-pin SOIC (R-16), Tube; Manufacturer: Analog Devices; PartNumber: AD96685BR; Input Range (V): -2.5 to 5.0; Total Power (mW): 120mW; Voltage Supply (V): 5, -5.2; DatasheetVersion: Rev. D; PackageVersion: 060606-A, 06/2006; PackageReference: R-16; PackageDescription: 16-Pin Standard Small Outline Package, Body 9.9 x 3.9 mm, Pitch 1.27 mm; Supplier 1: Digi-Key; Supplier Part Number 1: AD96685BR-ND; Supplier 2: Mouser; Supplier Part Number 2: 584-AD96685BR; Packing: Tube; Mounting Technology: Surface Mount; Code_JEDEC: MS-012-AC; ComponentLink1Description: Manufacturer URL; ComponentLink1URL: http://www.analog.com/en/index.html; ComponentLink2Description: Datasheet; ComponentLink2URL: http://www.analog.com/static/imported-files/data_sheets/AD96685_96687.pdf; ComponentLink3Description: Package Specification; ComponentLink3URL: http://www.analog.com/static/imported-files/packages/PKG_PDF/SOIC_Narrow%20(R)/R_16.pdf; ComponentLink4Description: URL Link1; ComponentLink4URL: Product URL:http://www.analog.com/en/special-linear-functions/comparators/ad96685/products/product.html
footprint ADI-R-16_N (SOIC, 16-Leads, Body 9.9x3.9mm, Pitch 1.27mm, IPC Medium Density)
footprint ADI-R-16_L (SOIC, 16-Leads, Body 9.9x3.9mm, Pitch 1.27mm, IPC High Density)
footprint ADI-R-16_M (SOIC, 16-Leads, Body 9.9x3.9mm, Pitch 1.27mm, IPC Low Density)
part A pins: 1 GND 1 (power) "One of two grounds, but primarily associated with the digital ground. Both grounds should be connected together near the comparator.", 2 +VS (power) "Positive supply terminal, nominally 5.0 V.", 3 +IN (in) "Noninverting analog input of the differential input stage. The NONINVERTING INPUT must be driven in conjunction with the INVERTING INPUT.", 4 -IN (in) "Inverting analog input of the differential input stage. The INVERTING INPUT must be driven in conjunction with the NONINVERTING INPUT.", 6 LATCH ENABLE (in) "In the “compare?mode (logic HIGH), the output will track changes at the input of the comparator. In the “latch?mode (logic LOW), the output will reflect the input state just prior to the comparator being placed in the (See Datasheet)", 8 -VS (power) "Negative supply terminal, nominally -5.2 V.", 11 Q (oe) "One of two complementary outputs. Q will be at logic HIGH if the analog voltage at the NONINVERTING INPUT is greater than the analog voltage at the INVERTING INPUT (provided the comparator is in the “compare?mode). See (See Datasheet)", 12 ~{Q} (oe) "One of two complementary outputs. Q\ will be at logic LOW if the analog voltage at the NONINVERTING INPUT is greater than the analog voltage at the INVERTING INPUT (provided the comparator is in the “compare?mode). See (See Datasheet)", 16 GND 2 (power) "One of two grounds, but primarily associated with the digital ground. Both grounds should be connected together near the comparator."
part B pins: 5 NC "NC = NO CONNECT", 7 NC "NC = NO CONNECT", 9 NC "NC = NO CONNECT", 10 NC "NC = NO CONNECT", 13 NC "NC = NO CONNECT", 14 NC "NC = NO CONNECT", 15 NC "NC = NO CONNECT"

## AD96685BR-REEL
designator U?
Ultrafast Comparator, 5, - 5.2 V, 2.5 ns Delay, Commercial, 16-pin SOIC (R-16), Reel; Manufacturer: Analog Devices; PartNumber: AD96685BR-REEL; Input Range (V): -2.5 to 5.0; Total Power (mW): 120mW; Voltage Supply (V): 5, -5.2; DatasheetVersion: Rev. D; PackageVersion: 060606-A, 06/2006; PackageReference: R-16; PackageDescription: 16-Pin Standard Small Outline Package, Body 9.9 x 3.9 mm, Pitch 1.27 mm; Supplier 1: Digi-Key; Supplier Part Number 1: AD96685BR-REEL-ND; Supplier 2: Mouser; Supplier Part Number 2: 584-AD96685BR-R; Packing: Reel; Mounting Technology: Surface Mount; Code_JEDEC: MS-012-AC; ComponentLink1Description: Manufacturer URL; ComponentLink1URL: http://www.analog.com/en/index.html; ComponentLink2Description: Datasheet; ComponentLink2URL: http://www.analog.com/static/imported-files/data_sheets/AD96685_96687.pdf; ComponentLink3Description: Package Specification; ComponentLink3URL: http://www.analog.com/static/imported-files/packages/PKG_PDF/SOIC_Narrow%20(R)/R_16.pdf; ComponentLink4Description: URL Link1; ComponentLink4URL: Product URL:http://www.analog.com/en/special-linear-functions/comparators/ad96685/products/product.html
footprint ADI-R-16_N (SOIC, 16-Leads, Body 9.9x3.9mm, Pitch 1.27mm, IPC Medium Density)
footprint ADI-R-16_L (SOIC, 16-Leads, Body 9.9x3.9mm, Pitch 1.27mm, IPC High Density)
footprint ADI-R-16_M (SOIC, 16-Leads, Body 9.9x3.9mm, Pitch 1.27mm, IPC Low Density)
part A pins: 1 GND 1 (power) "One of two grounds, but primarily associated with the digital ground. Both grounds should be connected together near the comparator.", 2 +VS (power) "Positive supply terminal, nominally 5.0 V.", 3 +IN (in) "Noninverting analog input of the differential input stage. The NONINVERTING INPUT must be driven in conjunction with the INVERTING INPUT.", 4 -IN (in) "Inverting analog input of the differential input stage. The INVERTING INPUT must be driven in conjunction with the NONINVERTING INPUT.", 6 LATCH ENABLE (in) "In the “compare?mode (logic HIGH), the output will track changes at the input of the comparator. In the “latch?mode (logic LOW), the output will reflect the input state just prior to the comparator being placed in the (See Datasheet)", 8 -VS (power) "Negative supply terminal, nominally -5.2 V.", 11 Q (oe) "One of two complementary outputs. Q will be at logic HIGH if the analog voltage at the NONINVERTING INPUT is greater than the analog voltage at the INVERTING INPUT (provided the comparator is in the “compare?mode). See (See Datasheet)", 12 ~{Q} (oe) "One of two complementary outputs. Q\ will be at logic LOW if the analog voltage at the NONINVERTING INPUT is greater than the analog voltage at the INVERTING INPUT (provided the comparator is in the “compare?mode). See (See Datasheet)", 16 GND 2 (power) "One of two grounds, but primarily associated with the digital ground. Both grounds should be connected together near the comparator."
part B pins: 5 NC "NC = NO CONNECT", 7 NC "NC = NO CONNECT", 9 NC "NC = NO CONNECT", 10 NC "NC = NO CONNECT", 13 NC "NC = NO CONNECT", 14 NC "NC = NO CONNECT", 15 NC "NC = NO CONNECT"

## AD96685BRZ
designator U?
Ultrafast Comparator, 5, - 5.2 V, 2.5 ns Delay, Commercial, 16-pin SOIC (R-16), Tube; Manufacturer: Analog Devices; PartNumber: AD96685BRZ; Input Range (V): -2.5 to 5.0; Voltage Supply (V): 5, -5.2; DatasheetVersion: Rev. D; PackageVersion: 060606-A, 06/2006; PackageReference: R-16; PackageDescription: 16-Pin Standard Small Outline Package, Body 9.9 x 3.9 mm, Pitch 1.27 mm; Supplier 1: Digi-Key; Supplier Part Number 1: AD96685BRZ-ND; Supplier 2: Farnell; Supplier Part Number 2: 2376812; Supplier 3: Mouser; Supplier Part Number 3: 584-AD96685BRZ; Packing: Tube; Mounting Technology: Surface Mount; Code_JEDEC: MS-012-AC; ComponentLink1Description: Manufacturer URL; ComponentLink1URL: http://www.analog.com/en/index.html; ComponentLink2Description: Datasheet; ComponentLink2URL: http://www.analog.com/static/imported-files/data_sheets/AD96685_96687.pdf; ComponentLink3Description: Package Specification; ComponentLink3URL: http://www.analog.com/static/imported-files/packages/PKG_PDF/SOIC_Narrow%20(R)/R_16.pdf; ComponentLink4Description: URL Link1; ComponentLink4URL: Product URL:http://www.analog.com/en/special-linear-functions/comparators/ad96685/products/product.html
footprint ADI-R-16_N (SOIC, 16-Leads, Body 9.9x3.9mm, Pitch 1.27mm, IPC Medium Density)
footprint ADI-R-16_L (SOIC, 16-Leads, Body 9.9x3.9mm, Pitch 1.27mm, IPC High Density)
footprint ADI-R-16_M (SOIC, 16-Leads, Body 9.9x3.9mm, Pitch 1.27mm, IPC Low Density)
part A pins: 1 GND 1 (power) "One of two grounds, but primarily associated with the digital ground. Both grounds should be connected together near the comparator.", 2 +VS (power) "Positive supply terminal, nominally 5.0 V.", 3 +IN (in) "Noninverting analog input of the differential input stage. The NONINVERTING INPUT must be driven in conjunction with the INVERTING INPUT.", 4 -IN (in) "Inverting analog input of the differential input stage. The INVERTING INPUT must be driven in conjunction with the NONINVERTING INPUT.", 6 LATCH ENABLE (in) "In the “compare?mode (logic HIGH), the output will track changes at the input of the comparator. In the “latch?mode (logic LOW), the output will reflect the input state just prior to the comparator being placed in the (See Datasheet)", 8 -VS (power) "Negative supply terminal, nominally -5.2 V.", 11 Q (oe) "One of two complementary outputs. Q will be at logic HIGH if the analog voltage at the NONINVERTING INPUT is greater than the analog voltage at the INVERTING INPUT (provided the comparator is in the “compare?mode). See (See Datasheet)", 12 ~{Q} (oe) "One of two complementary outputs. Q\ will be at logic LOW if the analog voltage at the NONINVERTING INPUT is greater than the analog voltage at the INVERTING INPUT (provided the comparator is in the “compare?mode). See (See Datasheet)", 16 GND 2 (power) "One of two grounds, but primarily associated with the digital ground. Both grounds should be connected together near the comparator."
part B pins: 5 NC "NC = NO CONNECT", 7 NC "NC = NO CONNECT", 9 NC "NC = NO CONNECT", 10 NC "NC = NO CONNECT", 13 NC "NC = NO CONNECT", 14 NC "NC = NO CONNECT", 15 NC "NC = NO CONNECT"

## AD96685BRZ-REEL
designator U?
Ultrafast Comparator, 5, - 5.2 V, 2.5 ns Delay, Commercial, 16-pin SOIC (R-16), Reel; Manufacturer: Analog Devices; PartNumber: AD96685BRZ-REEL; Input Range (V): -2.5 to 5.0; Voltage Supply (V): 5, -5.2; DatasheetVersion: Rev. D; PackageVersion: 060606-A, 06/2006; PackageReference: R-16; PackageDescription: 16-Pin Standard Small Outline Package, Body 9.9 x 3.9 mm, Pitch 1.27 mm; Supplier 1: Digi-Key; Supplier Part Number 1: AD96685BRZ-REEL-ND; Supplier 2: Mouser; Supplier Part Number 2: 584-AD96685BRZ-R; Packing: Reel; Mounting Technology: Surface Mount; Code_JEDEC: MS-012-AC; ComponentLink1Description: Manufacturer URL; ComponentLink1URL: http://www.analog.com/en/index.html; ComponentLink2Description: Datasheet; ComponentLink2URL: http://www.analog.com/static/imported-files/data_sheets/AD96685_96687.pdf; ComponentLink3Description: Package Specification; ComponentLink3URL: http://www.analog.com/static/imported-files/packages/PKG_PDF/SOIC_Narrow%20(R)/R_16.pdf; ComponentLink4Description: URL Link1; ComponentLink4URL: Product URL:http://www.analog.com/en/special-linear-functions/comparators/ad96685/products/product.html
footprint ADI-R-16_N (SOIC, 16-Leads, Body 9.9x3.9mm, Pitch 1.27mm, IPC Medium Density)
footprint ADI-R-16_L (SOIC, 16-Leads, Body 9.9x3.9mm, Pitch 1.27mm, IPC High Density)
footprint ADI-R-16_M (SOIC, 16-Leads, Body 9.9x3.9mm, Pitch 1.27mm, IPC Low Density)
part A pins: 1 GND 1 (power) "One of two grounds, but primarily associated with the digital ground. Both grounds should be connected together near the comparator.", 2 +VS (power) "Positive supply terminal, nominally 5.0 V.", 3 +IN (in) "Noninverting analog input of the differential input stage. The NONINVERTING INPUT must be driven in conjunction with the INVERTING INPUT.", 4 -IN (in) "Inverting analog input of the differential input stage. The INVERTING INPUT must be driven in conjunction with the NONINVERTING INPUT.", 6 LATCH ENABLE (in) "In the “compare?mode (logic HIGH), the output will track changes at the input of the comparator. In the “latch?mode (logic LOW), the output will reflect the input state just prior to the comparator being placed in the (See Datasheet)", 8 -VS (power) "Negative supply terminal, nominally -5.2 V.", 11 Q (oe) "One of two complementary outputs. Q will be at logic HIGH if the analog voltage at the NONINVERTING INPUT is greater than the analog voltage at the INVERTING INPUT (provided the comparator is in the “compare?mode). See (See Datasheet)", 12 ~{Q} (oe) "One of two complementary outputs. Q\ will be at logic LOW if the analog voltage at the NONINVERTING INPUT is greater than the analog voltage at the INVERTING INPUT (provided the comparator is in the “compare?mode). See (See Datasheet)", 16 GND 2 (power) "One of two grounds, but primarily associated with the digital ground. Both grounds should be connected together near the comparator."
part B pins: 5 NC "NC = NO CONNECT", 7 NC "NC = NO CONNECT", 9 NC "NC = NO CONNECT", 10 NC "NC = NO CONNECT", 13 NC "NC = NO CONNECT", 14 NC "NC = NO CONNECT", 15 NC "NC = NO CONNECT"